# Altium integrated library FT231XQ-R.IntLib: 1 symbol
Pins are listed as number, name and electrical type; pins without a type are passive.

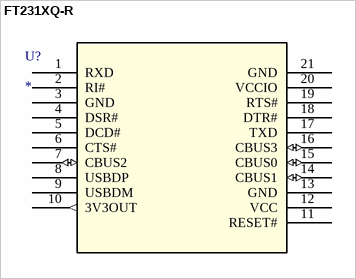
[diagram p0: symbol FT231XQ-R]

## FT231XQ-R
designator U?
No Description Available; Mfr_Name: FTDI, Future Technology Devices International Ltd; RefDes: RefDes; Type: Type
footprint QFN20_FT231XQ_FTD
pins: 1 RXD, 2 RI#, 3 GND (power), 4 DSR#, 5 DCD#, 6 CTS#, 7 CBUS2 (io), 8 USBDP, 9 USBDM, 10 3V3OUT (out), 11 RESET#, 12 VCC (power), 13 GND (power), 14 CBUS1 (io), 15 CBUS0 (io), 16 CBUS3 (io), 17 TXD, 18 DTR#, 19 RTS#, 20 VCCIO (power), 21 GND (power)